# Altium footprint library SOD523_SC79_EMD2.PcbLib: 1 footprints
Each footprint in its own frame and in the unit in brackets; x right, y up, seen from the top. Pads: shape width x height; smd on the part's side, far side on the other; paste and mask are expansions set on the pad; w line width, h text height; cw(c..) or ccw(c..) is an arc to the next point about the centre after c.
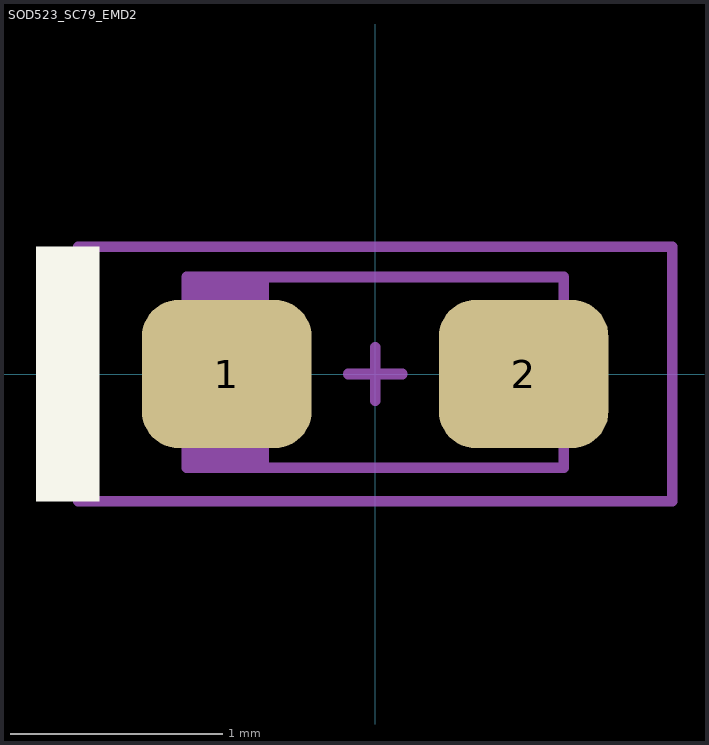
[diagram p0: the footprint, top view; thin cyan lines are the x and y axes]

## SOD523_SC79_EMD2 [mm]
pads (2):
  rrect50% 0.8x0.7 smd: 1(-0.7,0) 2(0.7,0)
Top Overlay:
  rectangle: -1.6,-0.6 -1.3,0.6
Top Assembly:
  rectangle: -0.889,-0.442 -0.5,0.457
  lines w0.05: -0.889,-0.442 0.889,-0.442 0.889,0.457 -0.889,0.457 -0.889,-0.442
Top Courtyard:
  lines w0.05: -0.127,0 0.127,0 ; 0,-0.127 0,0.127 ; -1.4,-0.6 1.4,-0.6 1.4,0.6 -1.4,0.6 -1.4,-0.6
3D body "User Library-SOD-523_SCD80_SC-79.step": height 0.77, standoff -0.03, extent -0.9,-0.449 0.9,0.45